# EAGLE library part TEENSY_3.2_SOCKET (library kiss_z)
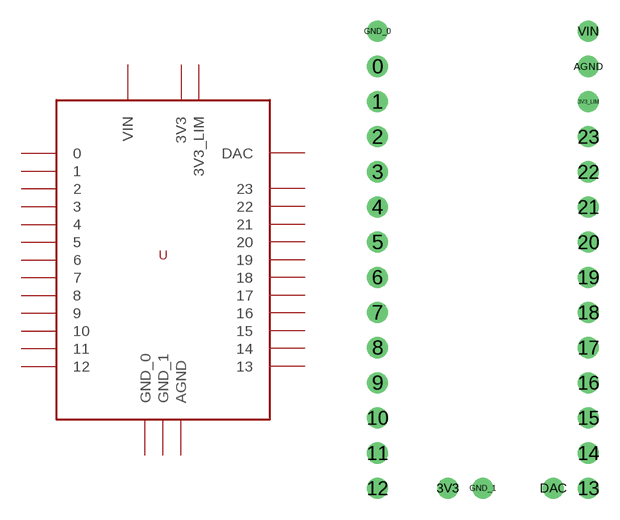
[diagram p3: symbol with the pads of TEENSY_3.2_SOCKET; footprint TEENSY_3.2_SOCKET]

Designator prefix U

## TEENSY_3.2_SOCKET  [TEENSY_3.2_SOCKET]
0  0
1  1
2  2
3  3
3V3  3V3
3V3_LIM  3V3_LIM
4  4
5  5
6  6
7  7
8  8
9  9
10  10
11  11
12  12
13  13
14  14
15  15
16  16
17  17
18  18
19  19
20  20
21  21
22  22
23  23
AGND  AGND
DAC  DAC
GND_0  GND_0
GND_1  GND_1
VIN  VIN

## Footprint TEENSY_3.2_SOCKET (pad centres in mm)
drill 1.016: 0 0,-2.54; 1 0,-5.08; 2 0,-7.62; 3 0,-10.16; 3V3 5.08,-33.02; 3V3_LIM 15.24,-5.08; 4 0,-12.7; 5 0,-15.24; 6 0,-17.78; 7 0,-20.32; 8 0,-22.86; 9 0,-25.4; 10 0,-27.94; 11 0,-30.48; 12 0,-33.02; 13 15.24,-33.02; 14 15.24,-30.48; 15 15.24,-27.94; 16 15.24,-25.4; 17 15.24,-22.86; 18 15.24,-20.32; 19 15.24,-17.78; 20 15.24,-15.24; 21 15.24,-12.7; 22 15.24,-10.16; 23 15.24,-7.62; AGND 15.24,-2.54; DAC 12.7,-33.02; GND_0 0,0; GND_1 7.62,-33.02; VIN 15.24,0